# EAGLE library part LM016L (library LM016L)
Display Lcd 35x75mm
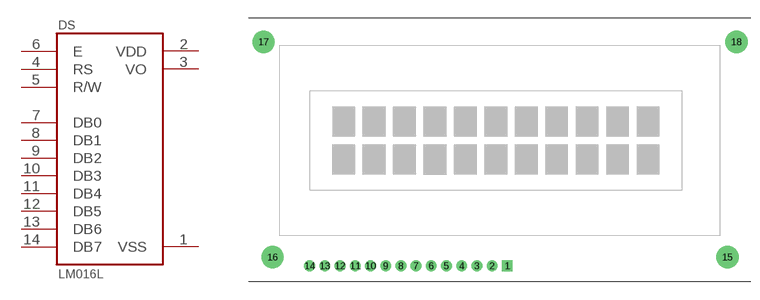
[diagram p0: symbol with the pads of LCD_LM016L; footprint LCD_LM016L]

Designator prefix DS

## LM016L (Availability: Unavailable; Description: Display Lcd 35x75mm; MF: Hitachi; MP: LM016L; Package: None; Price: None)  [LCD_LM016L]
1  VSS  pwr
2  VDD  pwr
3  VO  pwr
4  RS  in
5  R/W  in
6  E  in
7  DB0
8  DB1
9  DB2
10  DB3
11  DB4
12  DB5
13  DB6
14  DB7

## Footprint LCD_LM016L (pad centres in mm)
drill 1.2 square: 1 0,0
drill 1.2: 2 -2.54,0; 3 -5.08,0; 4 -7.62,0; 5 -10.16,0; 6 -12.7,0; 7 -15.24,0; 8 -17.78,0; 9 -20.32,0; 10 -22.86,0; 11 -25.4,0; 12 -27.94,0; 13 -30.48,0; 14 -33.02,0
drill 2.7: 15 36.78,1.46; 16 -39.22,1.46; 17 -40.72,37.46; 18 38.28,37.46